# EAGLE library part TPS6280XYKAR (library MotionDetectorCamera)
STEP-DOWN CONVERTER
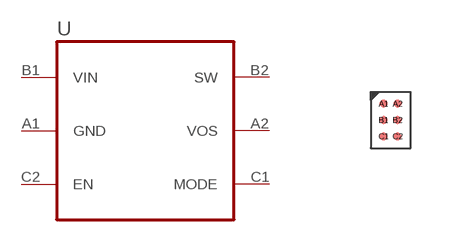
[diagram p2: symbol with the pads of TPS6280XYKAR; footprint TPS6280XYKAR]

Designator prefix U

## TPS6280XYKAR (MFG: Texas Instruments)  [TPS6280XYKAR]
A1  GND
A2  VOS
B1  VIN
B2  SW
C1  MODE
C2  EN

## Footprint TPS6280XYKAR (pad centres in mm)
smd 0.2 x 0.2: A1 -0.175,0.406; A2 0.175,0.406; B1 -0.175,0; B2 0.175,0; C1 -0.175,-0.406; C2 0.175,-0.406